# EAGLE library part 662108145021 (library Wuerth_Elektronik_eiCan_08_Micro_Power_Connectors)
WR-MPC3 3.00mm Male Single Row SMT Angled Header SMT Fitting Nail Clip, 8 Pins
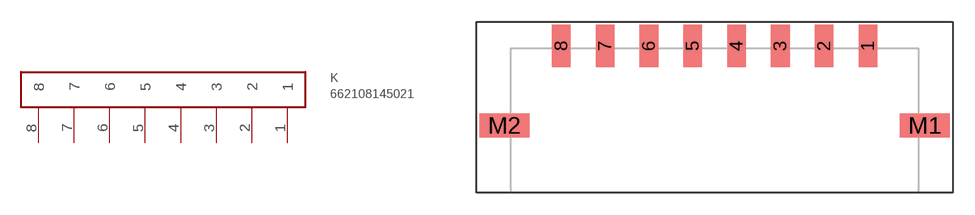
[diagram p86: symbol with the pads of 662108145021; footprint 662108145021]

Designator prefix K

## 662108145021  [662108145021]
1  1
2  2
3  3
4  4
5  5
6  6
7  7
8  8

## Footprint 662108145021 (pad centres in mm)
WR-MPC3 3.00mm Male Single Row SMT Angled Header SMT Fitting Nail Clip, 8 Pins
smd 1.27 x 2.92: 1 1.5,0; 2 -1.5,0; 3 -4.5,0; 4 -7.5,0; 5 -10.5,0; 6 -13.5,0; 7 -16.5,0; 8 -19.5,0
smd 3.43 x 1.65: M1 5.395,-5.47; M2 -23.395,-5.47